# Altium footprint library NetTie.PcbLib: 12 footprints
Each footprint in its own frame and in the unit in brackets; x right, y up, seen from the top. Pads: shape width x height; smd on the part's side, far side on the other; paste and mask are expansions set on the pad; w line width, h text height; cw(c..) or ccw(c..) is an arc to the next point about the centre after c.
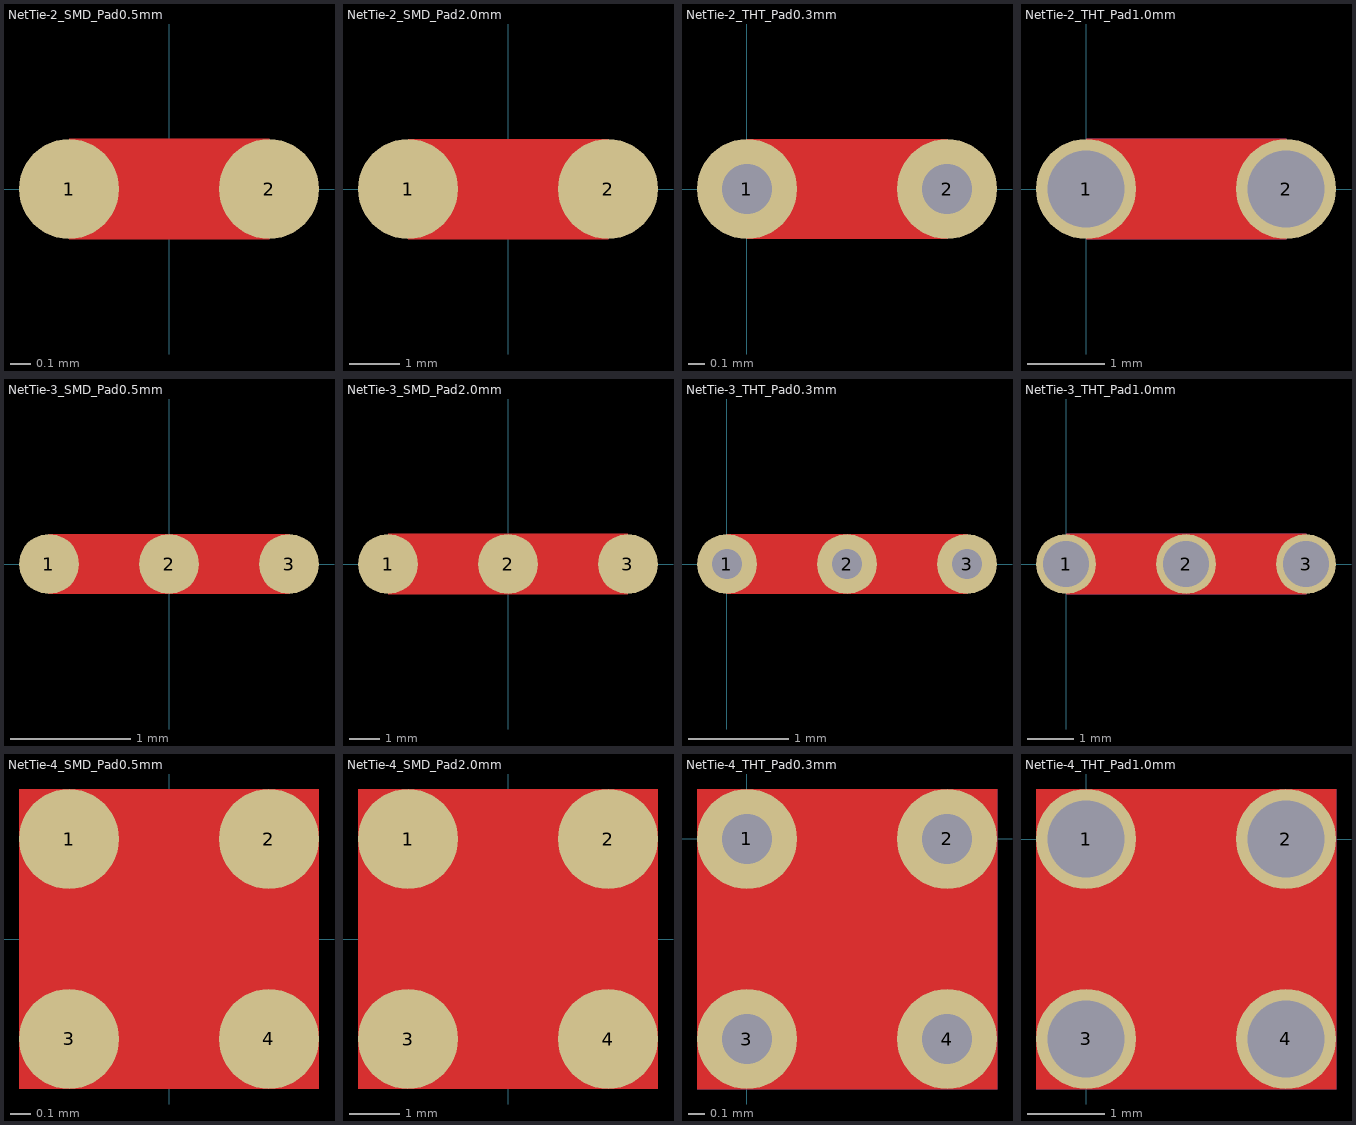
[diagram p0: the footprints below, top view; thin cyan lines are the x and y axes]

## NetTie-2_SMD_Pad0.5mm [mm]
pads (2):
  round 0.5 smd: 1(-0.5,0) 2(0.5,0)
F.Cu:
  region: 0.5,-0.25 -0.5,-0.25 -0.5,0.25 0.5,0.25
Top Component Center:
  lines w0.127: -0.127,0 0.127,0 ; 0,-0.127 0,0.127
Top Designator:
  text ".Designator" at -7.618,-0.508 h1.52

## NetTie-2_SMD_Pad2.0mm [mm]
pads (2):
  round 2 smd: 1(-2,0) 2(2,0)
F.Cu:
  region: 2,-1 -2,-1 -2,1 2,1
Top Designator:
  text ".Designator" at -7.618,-0.508 h1.52

## NetTie-2_THT_Pad0.3mm [mm]
pads (2):
  round 0.6 hole 0.3: 1(0,0) 2(1.2,0)
F.Cu:
  region: 1.2,-0.3 0,-0.3 0,0.3 1.2,0.3
B.Cu:
  region: 1.2,-0.3 0,-0.3 0,0.3 1.2,0.3
Top Designator:
  text ".Designator" at -7.018,-0.508 h1.52

## NetTie-2_THT_Pad1.0mm [mm]
pads (2):
  round 1.3 hole 1: 1(0,0) 2(2.6,0)
F.Cu:
  region: 2.6,-0.65 0,-0.65 0,0.65 2.6,0.65
B.Cu:
  region: 2.6,-0.65 0,-0.65 0,0.65 2.6,0.65
Top Designator:
  text ".Designator" at -6.318,-0.508 h1.52

## NetTie-3_SMD_Pad0.5mm [mm]
pads (3):
  round 0.5 smd: 1(-1,0) 2(0,0) 3(1,0)
F.Cu:
  region: 1,-0.25 -1,-0.25 -1,0.25 1,0.25
Top Designator:
  text ".Designator" at -7.618,-0.508 h1.52

## NetTie-3_SMD_Pad2.0mm [mm]
pads (3):
  round 2 smd: 1(-4,0) 2(0,0) 3(4,0)
F.Cu:
  region: 4,-1 -4,-1 -4,1 4,1
Top Designator:
  text ".Designator" at -7.618,-0.508 h1.52

## NetTie-3_THT_Pad0.3mm [mm]
pads (3):
  round 0.6 hole 0.3: 1(0,0) 2(1.2,0) 3(2.4,0)
F.Cu:
  region: 2.4,-0.3 0,-0.3 0,0.3 2.4,0.3
B.Cu:
  region: 2.4,-0.3 0,-0.3 0,0.3 2.4,0.3
Top Designator:
  text ".Designator" at -6.418,-0.508 h1.52

## NetTie-3_THT_Pad1.0mm [mm]
pads (3):
  round 1.3 hole 1: 1(0,0) 2(2.6,0) 3(5.2,0)
F.Cu:
  region: 5.2,-0.65 0,-0.65 0,0.65 5.2,0.65
B.Cu:
  region: 5.2,-0.65 0,-0.65 0,0.65 5.2,0.65
Top Designator:
  text ".Designator" at -5.018,-0.508 h1.52

## NetTie-4_SMD_Pad0.5mm [mm]
pads (4):
  round 0.5 smd: 1(-0.5,0.5) 2(0.5,0.5) 3(-0.5,-0.5) 4(0.5,-0.5)
F.Cu:
  region: 0.75,-0.75 -0.75,-0.75 -0.75,0.75 0.75,0.75
Top Designator:
  text ".Designator" at -7.618,-0.508 h1.52

## NetTie-4_SMD_Pad2.0mm [mm]
pads (4):
  round 2 smd: 1(-2,2) 2(2,2) 3(-2,-2) 4(2,-2)
F.Cu:
  region: 3,-3 -3,-3 -3,3 3,3
Top Designator:
  text ".Designator" at -7.618,-0.508 h1.52

## NetTie-4_THT_Pad0.3mm [mm]
pads (4):
  round 0.6 hole 0.3: 1(0,0) 2(1.2,0) 3(0,-1.2) 4(1.2,-1.2)
F.Cu:
  region: 1.5,-1.5 -0.3,-1.5 -0.3,0.3 1.5,0.3
B.Cu:
  region: 1.5,-1.5 -0.3,-1.5 -0.3,0.3 1.5,0.3
Top Designator:
  text ".Designator" at -7.018,-1.108 h1.52

## NetTie-4_THT_Pad1.0mm [mm]
pads (4):
  round 1.3 hole 1: 1(0,0) 2(2.6,0) 3(0,-2.6) 4(2.6,-2.6)
F.Cu:
  region: 3.25,-3.25 -0.65,-3.25 -0.65,0.65 3.25,0.65
B.Cu:
  region: 3.25,-3.25 -0.65,-3.25 -0.65,0.65 3.25,0.65
Top Designator:
  text ".Designator" at -6.318,-1.808 h1.52